# EAGLE library part 74LVC3G34 (library rs41)
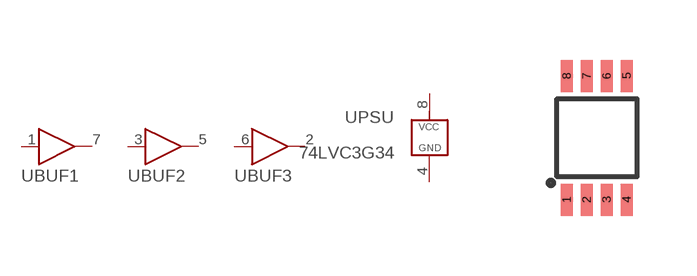
[diagram p3: symbol with the pads of GHI-IC_VSSOP8(TI); footprint GHI-IC_VSSOP8(TI)]

Designator prefix U; gates BUF1=BUFFER BUF2=BUFFER BUF3=BUFFER PSU=PSU

## 74LVC3G34  [GHI-IC_VSSOP8(TI)]
1  BUF1:A
2  BUF3:Y
3  BUF2:A
4  PSU:GND
5  BUF2:Y
6  BUF3:A
7  BUF1:Y
8  PSU:VCC

## Footprint GHI-IC_VSSOP8(TI) (pad centres in mm)
smd 0.3 x 0.8: 1 -0.75,-1.55; 2 -0.25,-1.55; 3 0.25,-1.55; 4 0.75,-1.55; 5 0.75,1.55; 6 0.25,1.55; 7 -0.25,1.55; 8 -0.75,1.55